# Altium footprint library EIA.SO.PcbLib: 20 footprints (part 2 of 2)
Each footprint in its own frame and in the unit in brackets; x right, y up, seen from the top. Pads: shape width x height; smd on the part's side, far side on the other; paste and mask are expansions set on the pad; w line width, h text height; cw(c..) or ccw(c..) is an arc to the next point about the centre after c.
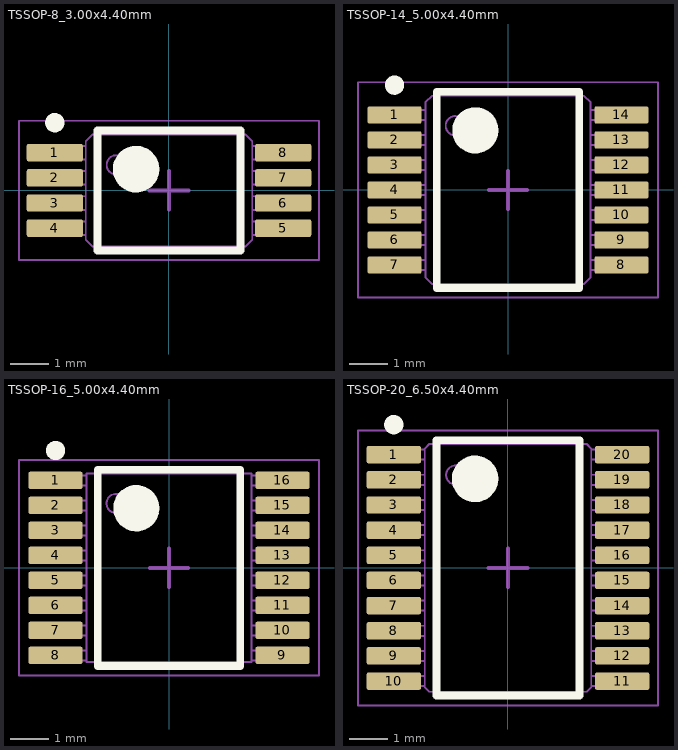
[diagram p1: the footprints below, top view; thin cyan lines are the x and y axes]

## TSSOP-8_3.00x4.40mm [mm] "TsSOP, 8-Leads, Body 3.00x4.40mm, Pitch 0.65mm, IPC Medium Density"
height 1.2
pads (8):
  rrect20% 1.45x0.45 smd: 1(-2.95,0.975) 2(-2.95,0.325) 3(-2.95,-0.325) 4(-2.95,-0.975) 5(2.95,-0.975) 6(2.95,-0.325) 7(2.95,0.325) 8(2.95,0.975)
Top Overlay:
  circle w0.25: c-2.95,1.75 r0.125
  circle w0.6: c-0.85,0.55 r0.3
  lines w0.2: -1.85,-1.55 -1.85,1.55 1.85,1.55 1.85,-1.55 -1.85,-1.55
Mechanical 1:
  circle w0.05: c-1.36,0.66 r0.25
  lines w0.05: -2.15,-1.15 -3.2,-1.15 -3.2,-0.8 -2.15,-0.8 ; -2.15,-0.5 -3.2,-0.5 -3.2,-0.15 -2.15,-0.15 ; -2.15,0.15 -3.2,0.15 -3.2,0.5 -2.15,0.5 ; -2.15,0.8 -3.2,0.8 -3.2,1.15 -2.15,1.15 ; 2.15,-1.15 3.2,-1.15 3.2,-0.8 2.15,-0.8 ; 2.15,-0.5 3.2,-0.5 3.2,-0.15 2.15,-0.15 ; 2.15,0.15 3.2,0.15 3.2,0.5 2.15,0.5 ; 2.15,0.8 3.2,0.8 3.2,1.15 2.15,1.15 ; -2.15,-1.275 -1.975,-1.45 1.975,-1.45 2.15,-1.275 2.15,1.275 1.975,1.45 -1.975,1.45 -2.15,1.275 -2.15,-1.275
Mechanical 15:
  lines w0.05: -3.875,-1.8 -3.875,1.8 3.875,1.8 3.875,-1.8 -3.875,-1.8
  lines w0.1: -0.5,0 0.5,0 ; 0,-0.5 0,0.5
3D body "TSSOP-8_4.4x3mm_P0.65mm.step": height 1.1, standoff 0, extent -3.2,-1.5 3.2,1.5

## TSSOP-14_5.00x4.40mm [mm] "TSSOP, 14-Leads, Body 5.00x4.40mm, Pitch 0.65mm, IPC Medium Density"
height 1.2
pads (14):
  rrect20% 1.4x0.45 smd: 1(-2.95,1.95) 2(-2.95,1.3) 3(-2.95,0.65) 4(-2.95,0) 5(-2.95,-0.65) 6(-2.95,-1.3) 7(-2.95,-1.95) 8(2.95,-1.95) 9(2.95,-1.3) 10(2.95,-0.65) 11(2.95,0) 12(2.95,0.65) 13(2.95,1.3) 14(2.95,1.95)
Top Overlay:
  circle w0.25: c-2.95,2.725 r0.125
  circle w0.6: c-0.85,1.55 r0.3
  lines w0.2: -1.85,-2.55 -1.85,2.55 1.85,2.55 1.85,-2.55 -1.85,-2.55
Mechanical 1:
  circle w0.05: c-1.37,1.67 r0.25
  lines w0.05: -2.15,-2.08 -3.2,-2.08 -3.2,-1.82 -2.15,-1.82 ; -2.15,-1.43 -3.2,-1.43 -3.2,-1.17 -2.15,-1.17 ; -2.15,-0.78 -3.2,-0.78 -3.2,-0.52 -2.15,-0.52 ; -2.15,-0.13 -3.2,-0.13 -3.2,0.13 -2.15,0.13 ; -2.15,0.52 -3.2,0.52 -3.2,0.78 -2.15,0.78 ; -2.15,1.17 -3.2,1.17 -3.2,1.43 -2.15,1.43 ; -2.15,1.82 -3.2,1.82 -3.2,2.08 -2.15,2.08 ; 2.15,-2.08 3.2,-2.08 3.2,-1.82 2.15,-1.82 ; 2.15,-1.43 3.2,-1.43 3.2,-1.17 2.15,-1.17 ; 2.15,-0.78 3.2,-0.78 3.2,-0.52 2.15,-0.52 ; 2.15,-0.13 3.2,-0.13 3.2,0.13 2.15,0.13 ; 2.15,0.52 3.2,0.52 3.2,0.78 2.15,0.78 ; 2.15,1.17 3.2,1.17 3.2,1.43 2.15,1.43 ; 2.15,1.82 3.2,1.82 3.2,2.08 2.15,2.08 ; -2.15,-2.275 -2.15,2.275 -1.975,2.45 1.975,2.45 2.15,2.275 2.15,-2.275 1.975,-2.45 -1.975,-2.45 -2.15,-2.275
Mechanical 15:
  lines w0.05: -3.9,-2.8 -3.9,2.8 3.9,2.8 3.9,-2.8 -3.9,-2.8
  lines w0.1: -0.5,0 0.5,0 ; 0,-0.5 0,0.5
3D body "TSSOP-14_4.4x5mm_P0.65mm.step": height 1, standoff 0, extent -3.2,-2.5 3.2,2.5

## TSSOP-16_5.00x4.40mm [mm] "TSSOP, 16-Leads, Body 5.00x4.40mm, Pitch 0.65mm, IPC Medium Density"
height 1.2
pads (16):
  rrect20% 1.4x0.45 smd: 1(-2.95,2.275) 2(-2.95,1.625) 3(-2.95,0.975) 4(-2.95,0.325) 5(-2.95,-0.325) 6(-2.95,-0.975) 7(-2.95,-1.625) 8(-2.95,-2.275) 9(2.95,-2.275) 10(2.95,-1.625) 11(2.95,-0.975) 12(2.95,-0.325) 13(2.95,0.325) 14(2.95,0.975) 15(2.95,1.625) 16(2.95,2.275)
Top Overlay:
  circle w0.6: c-0.85,1.55 r0.3
  circle w0.25: c-2.95,3.05 r0.125
  lines w0.2: -1.85,-2.55 1.85,-2.55 1.85,2.55 -1.85,2.55 -1.85,-2.55
Mechanical 1:
  circle w0.05: c-1.375,1.675 r0.25
  lines w0.05: -2.15,-2.405 -3.2,-2.405 -3.2,-2.145 -2.15,-2.145 ; -2.15,-1.755 -3.2,-1.755 -3.2,-1.495 -2.15,-1.495 ; -2.15,-1.105 -3.2,-1.105 -3.2,-0.845 -2.15,-0.845 ; -2.15,-0.455 -3.2,-0.455 -3.2,-0.195 -2.15,-0.195 ; -2.15,0.195 -3.2,0.195 -3.2,0.455 -2.15,0.455 ; -2.15,0.845 -3.2,0.845 -3.2,1.105 -2.15,1.105 ; -2.15,1.495 -3.2,1.495 -3.2,1.755 -2.15,1.755 ; -2.15,2.145 -3.2,2.145 -3.2,2.405 -2.15,2.405 ; 2.15,-2.405 3.2,-2.405 3.2,-2.145 2.15,-2.145 ; 2.15,-1.755 3.2,-1.755 3.2,-1.495 2.15,-1.495 ; 2.15,-1.105 3.2,-1.105 3.2,-0.845 2.15,-0.845 ; 2.15,-0.455 3.2,-0.455 3.2,-0.195 2.15,-0.195 ; 2.15,0.195 3.2,0.195 3.2,0.455 2.15,0.455 ; 2.15,0.845 3.2,0.845 3.2,1.105 2.15,1.105 ; 2.15,1.495 3.2,1.495 3.2,1.755 2.15,1.755 ; 2.15,2.145 3.2,2.145 3.2,2.405 2.15,2.405 ; -2.15,-2.45 2.15,-2.45 2.15,2.45 -2.15,2.45 -2.15,-2.45
Mechanical 15:
  lines w0.05: -3.9,-2.8 3.9,-2.8 3.9,2.8 -3.9,2.8 -3.9,-2.8
  lines w0.1: -0.5,0 0.5,0 ; 0,-0.5 0,0.5
3D body "TSSOP-16_4.4x5mm_P0.65mm.step": height 1.1, standoff 0, extent -3.2,-2.5 3.2,2.5

## TSSOP-20_6.50x4.40mm [mm] "TSOP, 20-Leads, Body 6.50x4.40mm, Pitch 0.65mm, IPC Medium Density"
height 1.2
pads (20):
  rrect20% 1.4x0.45 smd: 1(-2.95,2.925) 2(-2.95,2.275) 3(-2.95,1.625) 4(-2.95,0.975) 5(-2.95,0.325) 6(-2.95,-0.325) 7(-2.95,-0.975) 8(-2.95,-1.625) 9(-2.95,-2.275) 10(-2.95,-2.925) 11(2.95,-2.925) 12(2.95,-2.275) 13(2.95,-1.625) 14(2.95,-0.975) 15(2.95,-0.325) 16(2.95,0.325) 17(2.95,0.975) 18(2.95,1.625) 19(2.95,2.275) 20(2.95,2.925)
Top Overlay:
  circle w0.25: c-2.95,3.7 r0.125
  circle w0.6: c-0.85,2.3 r0.3
  lines w0.2: -1.85,-3.3 -1.85,3.3 1.85,3.3 1.85,-3.3 -1.85,-3.3
Mechanical 1:
  circle w0.05: c-1.349,2.399 r0.25
  lines w0.05: -2.15,-3.055 -3.2,-3.055 -3.2,-2.795 -2.15,-2.795 ; -2.15,-2.405 -3.2,-2.405 -3.2,-2.145 -2.15,-2.145 ; -2.15,-1.755 -3.2,-1.755 -3.2,-1.495 -2.15,-1.495 ; -2.15,-1.105 -3.2,-1.105 -3.2,-0.845 -2.15,-0.845 ; -2.15,-0.455 -3.2,-0.455 -3.2,-0.195 -2.15,-0.195 ; -2.15,0.195 -3.2,0.195 -3.2,0.455 -2.15,0.455 ; -2.15,0.845 -3.2,0.845 -3.2,1.105 -2.15,1.105 ; -2.15,1.495 -3.2,1.495 -3.2,1.755 -2.15,1.755 ; -2.15,2.145 -3.2,2.145 -3.2,2.405 -2.15,2.405 ; -2.15,2.795 -3.2,2.795 -3.2,3.055 -2.15,3.055 ; 2.15,-3.055 3.2,-3.055 3.2,-2.795 2.15,-2.795 ; 2.15,-2.405 3.2,-2.405 3.2,-2.145 2.15,-2.145 ; 2.15,-1.755 3.2,-1.755 3.2,-1.495 2.15,-1.495 ; 2.15,-1.105 3.2,-1.105 3.2,-0.845 2.15,-0.845 ; 2.15,-0.455 3.2,-0.455 3.2,-0.195 2.15,-0.195 ; 2.15,0.195 3.2,0.195 3.2,0.455 2.15,0.455 ; 2.15,0.845 3.2,0.845 3.2,1.105 2.15,1.105 ; 2.15,1.495 3.2,1.495 3.2,1.755 2.15,1.755 ; 2.15,2.145 3.2,2.145 3.2,2.405 2.15,2.405 ; 2.15,2.795 3.2,2.795 3.2,3.055 2.15,3.055 ; -2.15,-3.08 -2.15,3.08 -2.03,3.2 2.03,3.2 2.15,3.08 2.15,-3.08 2.03,-3.2 -2.03,-3.2 -2.15,-3.08
Mechanical 15:
  lines w0.05: -3.875,-3.55 -3.875,3.55 3.875,3.55 3.875,-3.55 -3.875,-3.55
  lines w0.1: -0.5,0 0.5,0 ; 0,-0.5 0,0.5
3D body "TSSOP-20_4.4x6.5mm_P0.65mm.step": height 1.2, standoff 0, extent -3.2,-3.25 3.2,3.25